# Altium footprint library Diodes.PcbLib: 7 footprints
Each footprint in its own frame and in the unit in brackets; x right, y up, seen from the top. Pads: shape width x height; smd on the part's side, far side on the other; paste and mask are expansions set on the pad; w line width, h text height; cw(c..) or ccw(c..) is an arc to the next point about the centre after c.
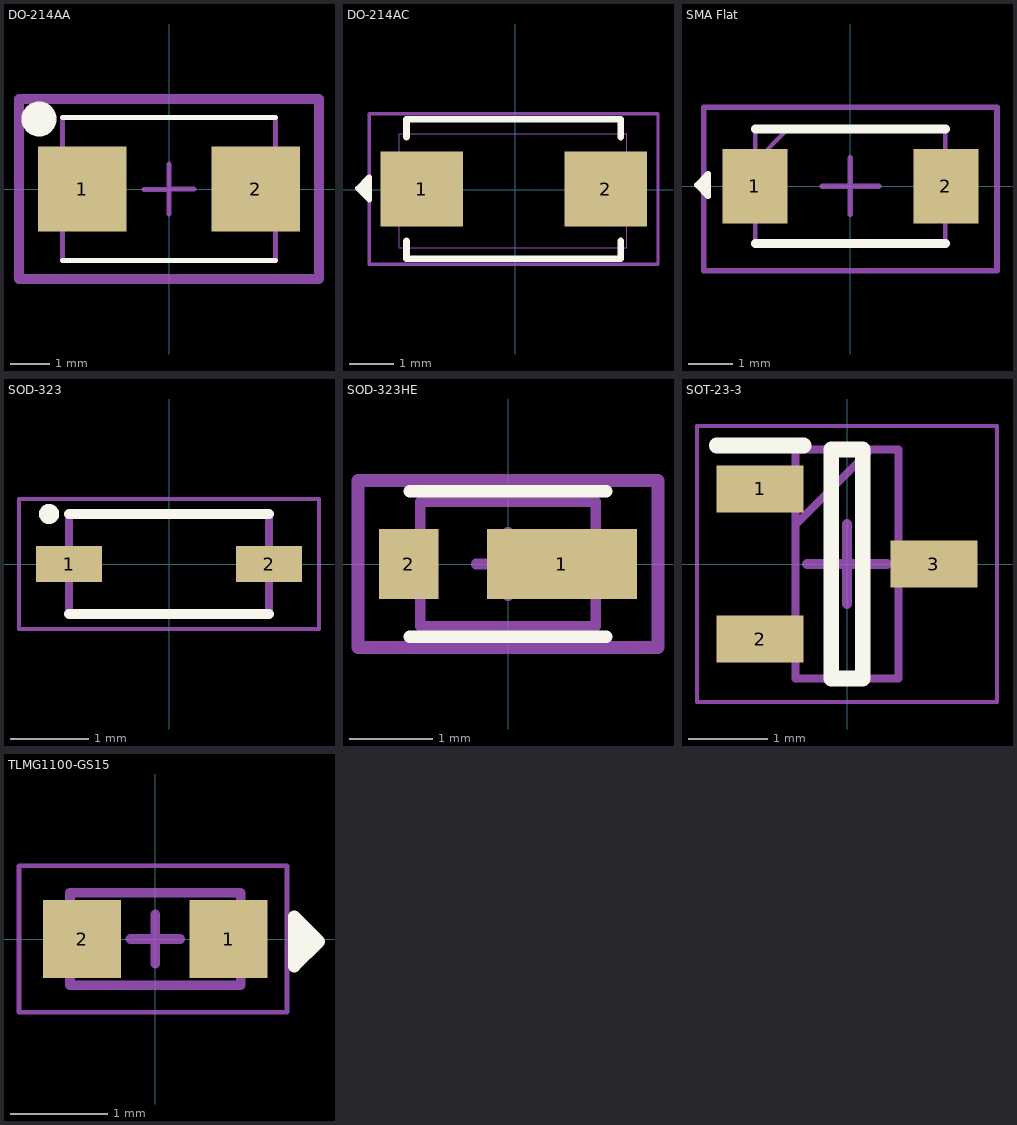
[diagram p0: the footprints below, top view; thin cyan lines are the x and y axes]

## DO-214AA [mm] "AKA SMB"
pads (2):
  rect 2.25x2.15 smd: 1(-2.2,0) 2(2.2,0)
Top Overlay:
  circle w0.508: c-3.302,1.778 r0.191
  lines w0.127: -2.702,-1.812 2.702,-1.812 ; -2.702,1.812 2.702,1.812
Top Component Center:
  lines w0.127: -0.639,-0.015 -0.004,-0.015 ; 0,-0.635 0,0 ; 0,0.635 0,0 ; 0.635,0 0,0
Top Component Outline:
  lines w0.127: -2.702,-1.812 -2.702,1.812 ; 2.702,-1.812 2.702,1.812
Top Courtyard:
  lines w0.254: -3.81,-2.286 3.81,-2.286 3.81,2.286 -3.81,2.286 -3.81,-2.286
3D body "NRVUHS160VT3G-GA01.stp": height 2.47, standoff 0, extent -2.702,-1.813 2.702,1.813

## DO-214AC [mil] "AKA SMA"
pads (2):
  rect 74x67 smd paste+0 mask+0: 1(-84,0.5) 2(81,0.5)
Top Overlay:
  lines w5: -134,3 -137,0 -133,-4 -133,-5 ; -131,-9 -141,1 -131,11 -131,-8 ; -131,-5 -131,-8 ; -131,1 -131,-8
  lines w6: -97.5,-46.1 -97.5,-62 94.5,-62 94.5,-46.1 ; -97.5,47.1 -97.5,63 94.5,63 94.5,47.1
Top Component Outline:
  circle w0: c-84,0.5 r3
  lines w1: -104,-52 -104,50 100,50 100,-52 -104,-52
Top Courtyard:
  lines w3: -131,-67 128,-67 128,68 -131,68 -131,-67
3D body "SM4T33CAY.step": height 43.31, standoff 0, extent -103.86,-51.86 100.86,50.5

## SMA Flat [mm] "SMA Flat Package"
pads (2):
  rect 1.46x1.67 smd: 1(-2.15,0) 2(2.15,0)
Top Overlay:
  lines w0.127: -3.277,0.076 -3.353,0 -3.251,-0.102 -3.251,-0.127 ; -3.2,-0.229 -3.454,0.025 -3.2,0.279 -3.2,-0.203 ; -3.2,-0.127 -3.2,-0.203 ; -3.2,0.025 -3.2,-0.203
  lines w0.2: -2.138,-1.288 2.138,-1.288 ; -2.138,1.288 2.138,1.288
Top Component Center:
  lines w0.127: -0.635,0 0,0 ; 0,-0.635 0,0 ; 0,0.635 0,0 ; 0.635,0 0,0
Top Component Outline:
  lines w0.1: -2.138,0.558 -1.408,1.288 ; -2.138,-1.288 2.138,-1.288 2.138,1.288 -2.138,1.288 -2.138,-1.288
Top Courtyard:
  lines w0.127: -3.302,-1.905 3.302,-1.905 3.302,1.778 -3.302,1.778 -3.302,-1.905
3D body "STPS1170AF.stp": height 1.1, standoff 0, extent -2.588,-1.288 2.588,1.288

## SOD-323 [mm]
pads (2):
  rect 0.84x0.46 smd: 1(-1.27,0) 2(1.27,0)
Top Overlay:
  circle w0.13: c-1.524,0.635 r0.064
  lines w0.127: -1.27,-0.635 1.27,-0.635 ; -1.27,0.635 1.27,0.635
Top Component Outline:
  lines w0.1: -1.27,0.625 -1.27,-0.625 1.27,-0.625 1.27,0.625
Top Courtyard:
  lines w0.05: -1.905,-0.825 -1.905,0.825 1.905,0.825 1.905,-0.825 -1.905,-0.825
3D body "SD103AWS-G3-08.stp": height 0.95, standoff 0, extent -1.342,-0.65 1.342,0.65

## SOD-323HE [mil]
pads (2):
  rect 71x33 smd paste+0 mask+0: 1(25.5,0)
  rect 28x33 smd paste+0 mask+0: 2(-47,0)
Top Overlay:
  lines w6: -46.5,-34.5 46.5,-34.5 ; -46.5,34.5 46.5,34.5
Top Component Center:
  lines w5: -15,0 0,0 ; 0,-15 0,0 ; 0,15 0,0 ; 15,0 0,0
Top Component Outline:
  lines w5: -41.5,-29.5 -41.5,29.5 41.5,29.5 41.5,-29.5 -41.5,-29.5
Top Courtyard:
  lines w6: -71,-39.5 -51.5,-39.5 51.5,-39.5 71,-39.5 71,39.5 51.5,39.5 -51.5,39.5 -71,39.5 -71,-39.5
3D body "CR_SOD-323HE_SC-108B-TUMD2M_ROM.step": height 32.09, standoff 0, extent -52.99,-29.49 52.99,29.49

## SOT-23-3 [mm]
pads (3):
  rect 1.1x0.6 smd: 1(-1.1,0.95) 2(-1.1,-0.95) 3(1.1,0)
Top Overlay:
  lines w0.2: -1.65,1.5 -0.55,1.5 ; -0.2,-1.45 0.2,-1.45 0.2,1.45 -0.2,1.45 -0.2,-1.45
Top Component Center:
  lines w0.127: -0.508,0 0.508,0 ; 0,-0.508 0,0.508
Top Component Outline:
  lines w0.1: -0.65,0.5 0.3,1.45 ; -0.65,-1.45 0.65,-1.45 0.65,1.45 -0.65,1.45 -0.65,-1.45
Top Courtyard:
  lines w0.05: -1.9,-1.75 1.9,-1.75 1.9,1.75 -1.9,1.75 -1.9,-1.75
3D body "BAV23C-HE3-08.stp": height 1.12, standoff 0, extent -1.212,-1.45 1.212,1.45

## TLMG1100-GS15 [mm] "0603 Footprint with Cathode Marking for LEDs"
pads (2):
  rect 0.8x0.8 smd: 1(0.75,0) 2(-0.75,0)
Top Overlay:
  lines w0.127: 1.422,-0.025 1.422,0.203 ; 1.422,0.127 1.422,0.203 ; 1.422,0.229 1.676,-0.025 1.422,-0.279 1.422,0.203 ; 1.473,0.127 1.473,0.102 1.575,0 1.499,-0.076
Top Component Center:
  lines w0.1: -0.254,0 0.254,0 ; 0,-0.254 0,0.254
Top Component Outline:
  lines w0.1: -0.875,-0.475 0.875,-0.475 0.875,0.475 -0.875,0.475 -0.875,-0.475
Top Courtyard:
  lines w0.05: -1.397,-0.75 1.35,-0.75 1.35,0.75 -1.397,0.75 -1.397,-0.75
3D body "A3D-0016": height 0.28, standoff 0, extent -0.8,-0.4 0.8,0.4